# EAGLE library part ATMEGA48P/88P/168P/328P (library atmel-avr)
MICROCONTROLLER 4/8/16/32K Flash
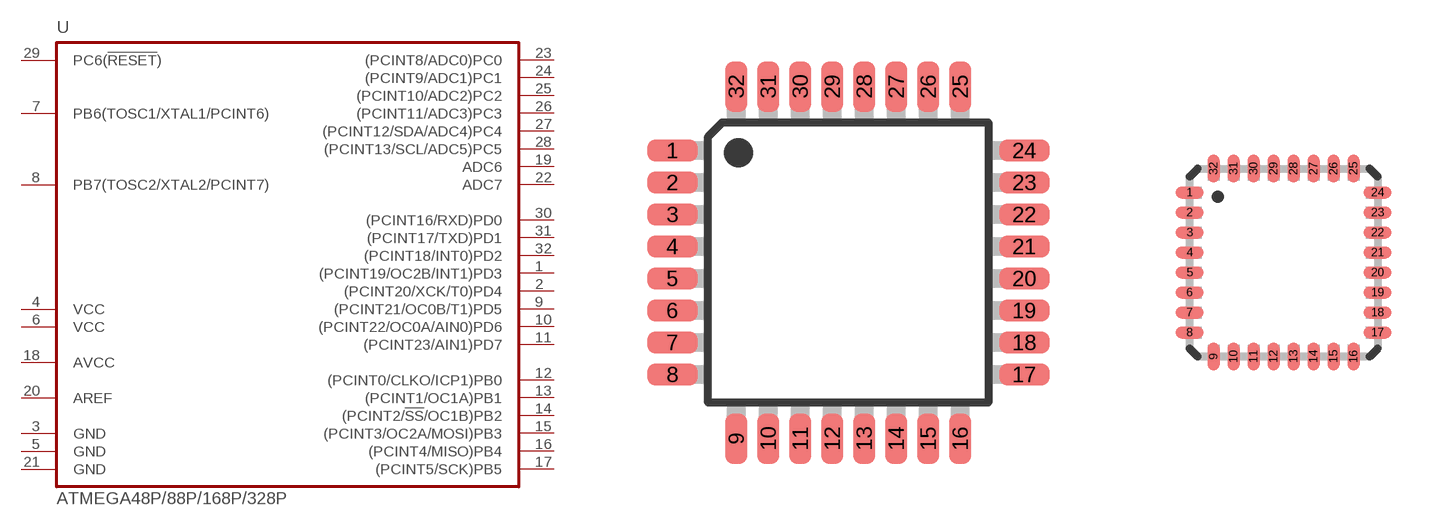
[diagram p15: symbol with the pads of TQFP32A; footprints TQFP32A, MLF32]

Designator prefix U

## ATMEGA48P/88P/168P/328P-A  [TQFP32A]
1  (PCINT19/OC2B/INT1)PD3
2  (PCINT20/XCK/T0)PD4
3  GND  pwr
4  VCC  pwr
5  GND  pwr
6  VCC  pwr
7  PB6(TOSC1/XTAL1/PCINT6)
8  PB7(TOSC2/XTAL2/PCINT7)
9  (PCINT21/OC0B/T1)PD5
10  (PCINT22/OC0A/AIN0)PD6
11  (PCINT23/AIN1)PD7
12  (PCINT0/CLKO/ICP1)PB0
13  (PCINT1/OC1A)PB1
14  (PCINT2/!SS!/OC1B)PB2
15  (PCINT3/OC2A/MOSI)PB3
16  (PCINT4/MISO)PB4
17  (PCINT5/SCK)PB5
18  AVCC  pwr
19  ADC6
20  AREF
21  GND  pwr
22  ADC7
23  (PCINT8/ADC0)PC0
24  (PCINT9/ADC1)PC1
25  (PCINT10/ADC2)PC2
26  (PCINT11/ADC3)PC3
27  (PCINT12/SDA/ADC4)PC4
28  (PCINT13/SCL/ADC5)PC5
29  PC6(!RESET!)  in
30  (PCINT16/RXD)PD0
31  (PCINT17/TXD)PD1
32  (PCINT18/INT0)PD2

## ATMEGA48P/88P/168P/328P-M1-A  [MLF32]
Pads as for TQFP32A

## Footprint TQFP32A (pad centres in mm)
Thin Plasic Quad Flat Package 0.8 mm pitch
smd 1.27 x 0.559: 1 -4.4,2.8; 2 -4.4,2; 3 -4.4,1.2; 4 -4.4,0.4; 5 -4.4,-0.4; 6 -4.4,-1.2; 7 -4.4,-2; 8 -4.4,-2.8; 17 4.4,-2.8; 18 4.4,-2; 19 4.4,-1.2; 20 4.4,-0.4; 21 4.4,0.4; 22 4.4,1.2; 23 4.4,2; 24 4.4,2.8
smd 0.559 x 1.27: 9 -2.8,-4.4; 10 -2,-4.4; 11 -1.2,-4.4; 12 -0.4,-4.4; 13 0.4,-4.4; 14 1.2,-4.4; 15 2,-4.4; 16 2.8,-4.4; 25 2.8,4.4; 26 2,4.4; 27 1.2,4.4; 28 0.4,4.4; 29 -0.4,4.4; 30 -1.2,4.4; 31 -2,4.4; 32 -2.8,4.4

## Footprint MLF32 (pad centres in mm)
32M1-A Micro Lead Frame package (MLF)
smd 0.7 x 0.3: 1 -2.35,1.75; 2 -2.35,1.25; 3 -2.35,0.75; 4 -2.35,0.25; 5 -2.35,-0.25; 6 -2.35,-0.75; 7 -2.35,-1.25; 8 -2.35,-1.75; 17 2.35,-1.75; 18 2.35,-1.25; 19 2.35,-0.75; 20 2.35,-0.25; 21 2.35,0.25; 22 2.35,0.75; 23 2.35,1.25; 24 2.35,1.75
smd 0.3 x 0.7: 9 -1.75,-2.35; 10 -1.25,-2.35; 11 -0.75,-2.35; 12 -0.25,-2.35; 13 0.25,-2.35; 14 0.75,-2.35; 15 1.25,-2.35; 16 1.75,-2.35; 25 1.75,2.35; 26 1.25,2.35; 27 0.75,2.35; 28 0.25,2.35; 29 -0.25,2.35; 30 -0.75,2.35; 31 -1.25,2.35; 32 -1.75,2.35